# Altium schematic symbol library Schlib_Vishay.SchLib: 27 symbols
Pins are listed as number, name and electrical type; pins without a type are passive.

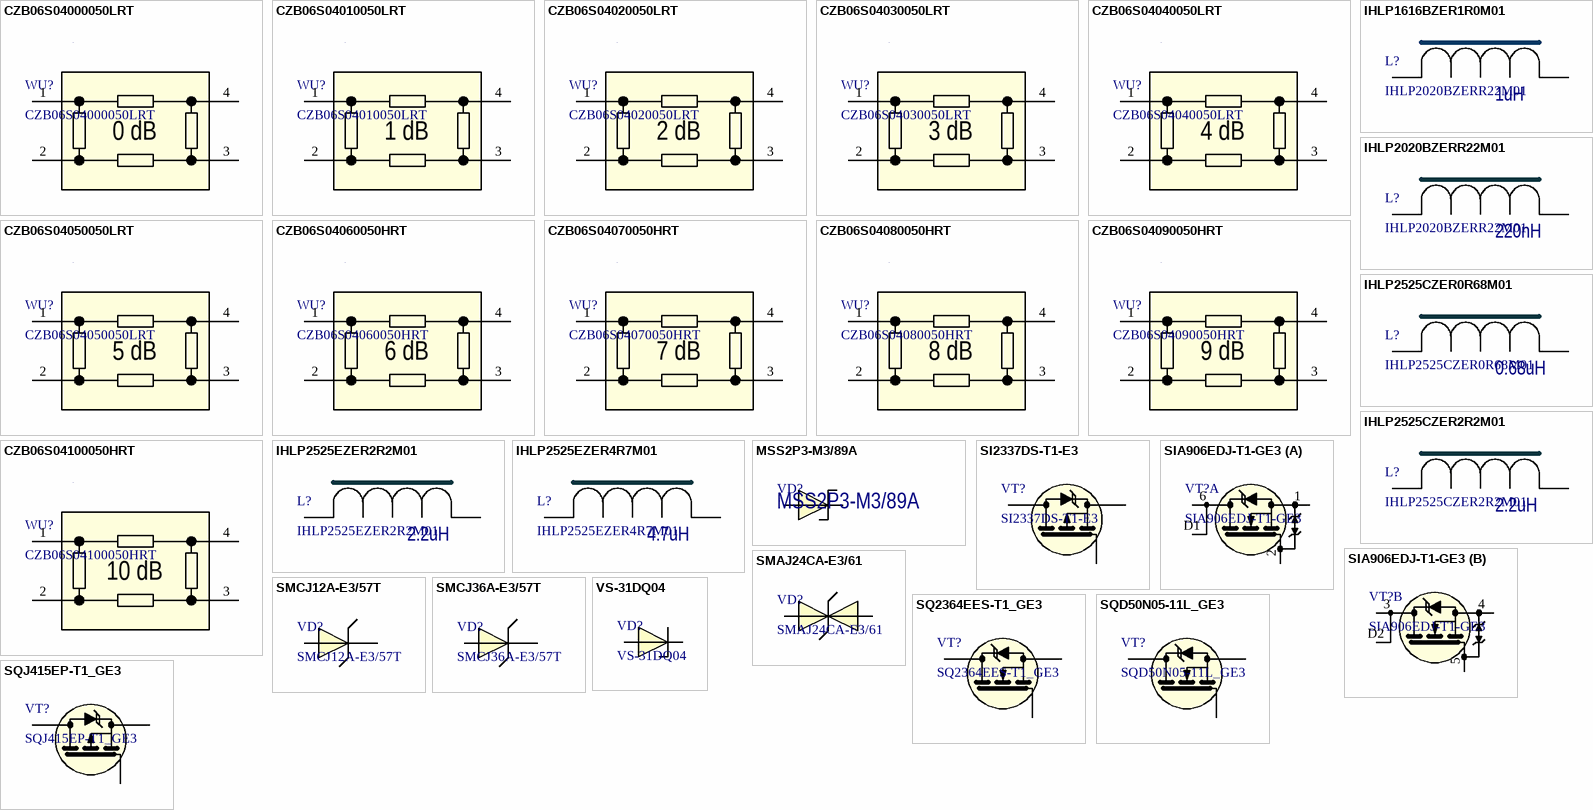
[diagram p0: symbols CZB06S04000050LRT to VS-31DQ04]

## CZB06S04000050LRT
designator WU?
Thick Film Chip Attenuator, Surface Mount, Balanced Pi Type; Manufacturer: Vishay; Part Number: CZB06S04000050LRT; Package: CZB06S
footprint CZB06S
pins: 1, 2, 3, 4
text: 0 dB

## CZB06S04010050LRT
designator WU?
Thick Film Chip Attenuator, Surface Mount, Balanced Pi Type; Manufacturer: Vishay; Part Number: CZB06S04010050LRT; Package: CZB06S
footprint CZB06S
pins: 1, 2, 3, 4
text: 1 dB

## CZB06S04020050LRT
designator WU?
Thick Film Chip Attenuator, Surface Mount, Balanced Pi Type; Manufacturer: Vishay; Part Number: CZB06S04020050LRT; Package: CZB06S
footprint CZB06S
pins: 1, 2, 3, 4
text: 2 dB

## CZB06S04030050LRT
designator WU?
Thick Film Chip Attenuator, Surface Mount, Balanced Pi Type; Manufacturer: Vishay; Part Number: CZB06S04030050LRT; Package: CZB06S
footprint CZB06S
pins: 1, 2, 3, 4
text: 3 dB

## CZB06S04040050LRT
designator WU?
Thick Film Chip Attenuator, Surface Mount, Balanced Pi Type; Manufacturer: Vishay; Part Number: CZB06S04040050LRT; Package: CZB06S
footprint CZB06S
pins: 1, 2, 3, 4
text: 4 dB

## CZB06S04050050LRT
designator WU?
Thick Film Chip Attenuator, Surface Mount, Balanced Pi Type; Manufacturer: Vishay; Part Number: CZB06S04050050LRT; Package: CZB06S
footprint CZB06S
pins: 1, 2, 3, 4
text: 5 dB

## CZB06S04060050HRT
designator WU?
Thick Film Chip Attenuator, Surface Mount, Balanced Pi Type; Manufacturer: Vishay; Part Number: CZB06S04060050HRT; Package: CZB06S
footprint CZB06S
pins: 1, 2, 3, 4
text: 6 dB

## CZB06S04070050HRT
designator WU?
Thick Film Chip Attenuator, Surface Mount, Balanced Pi Type; Manufacturer: Vishay; Part Number: CZB06S04070050HRT; Package: CZB06S
footprint CZB06S
pins: 1, 2, 3, 4
text: 7 dB

## CZB06S04080050HRT
designator WU?
Thick Film Chip Attenuator, Surface Mount, Balanced Pi Type; Manufacturer: Vishay; Part Number: CZB06S04080050HRT; Package: CZB06S
footprint CZB06S
pins: 1, 2, 3, 4
text: 8 dB

## CZB06S04090050HRT
designator WU?
Thick Film Chip Attenuator, Surface Mount, Balanced Pi Type; Manufacturer: Vishay; Part Number: CZB06S04090050HRT; Package: CZB06S
footprint CZB06S
pins: 1, 2, 3, 4
text: 9 dB

## CZB06S04100050HRT
designator WU?
Thick Film Chip Attenuator, Surface Mount, Balanced Pi Type; Manufacturer: Vishay; Part Number: CZB06S04100050HRT; Package: CZB06S
footprint CZB06S
pins: 1, 2, 3, 4
text: 10 dB

## IHLP1616BZER1R0M01
designator L?, comment IHLP2020BZERR22M01  Inductance @ 100 kHz: 1uH
Shielded SMD Power Inductors; Manufacturer: Vishay Dale; RDC: 27 mOhm; SRF Min: 64 MHz; Irms  Max: 4.5 A; Isat  Typ: 5 A; Part Number: IHLP2020BZERR22M01; Package: 4.06mm x 4.06mm
footprint IHLP1616
pins: 1, 2

## IHLP2020BZERR22M01
designator L?  Inductance @ 100 kHz: 220nH
Shielded SMD Power Inductors; Manufacturer: Vishay Dale; RDC: 5.2mOhm; SRF Min: 145 MHz; Irms  Max: 15 A; Isat  Typ: 22 A; Part Number: IHLP2020BZERR22M01; Package: 5.49mm x 5.18mm
footprint IHLP2020
pins: 1, 2

## IHLP2525CZER0R68M01
designator L?  Inductance @ 100 kHz: 0.68uH
Shielded SMD Power Inductors; Manufacturer: Vishay Dale; RDC: 5 mOhm; Irms  Max: 15.5 A; Isat  Typ: 25 A; Part Number: IHLP2525CZER0R68M01; Package: 6.47mm x 6.47mm
footprint IHLP2525_h3mm
pins: 1, 2

## IHLP2525CZER2R2M01
designator L?  Inductance @ 100 kHz: 2.2uH
Shielded SMD Power Inductors; Manufacturer: Vishay Dale; RDC: 18 mOhm; Irms  Max: 8 A; Isat  Typ: 14 A; Part Number: IHLP2525CZER2R2M01; Package: 6.47mm x 6.47mm
footprint IHLP2525_h3mm
pins: 1, 2

## IHLP2525EZER2R2M01
designator L?  Inductance @ 100 kHz: 2.2uH
Shielded SMD Power Inductors; Manufacturer: Vishay Dale; RDC: 13.6mOhm; Irms  Max: 10 A; Part Number: IHLP2525EZER2R2M01; Package: 6.47mm x 6.47mm; Isat  Typ: 10 A
footprint IHLP2525
pins: 1, 2

## IHLP2525EZER4R7M01
designator L?  Inductance @ 100 kHz: 4.7uH
Shielded SMD Power Inductors; Manufacturer: Vishay Dale; RDC: 37mOhm; Irms  Max: 5.5 A; Isat  Typ: 10 A; Part Number: IHLP2525EZER4R7M01; Package: 6.47mm x 6.47mm
footprint IHLP2525
pins: 1, 2

## MSS2P3-M3/89A
designator VD?
Diode Schottky 30V, 2A; Manufacturer: Vishay; Package: DO-219AD-2; Part Number: MSS2P3-M3/89A
footprint DO-219AD-2
pins: 1 C, 2 A

## SI2337DS-T1-E3
designator VT?
P-Channel 80-V (D-S) MOSFET 2.2A; Manufacturer: Vishay; Part Number: SI2337DS-T1-E3; Package: SOT23-3
footprint SOT23-3 (SOT23, 6-Leads, Body 2.90x2.80mm, Pitch 0.95mm, IPC Medium Density)
pins: 1 G, 2 S, 3 D

## SIA906EDJ-T1-GE3
designator VT?
Dual N-Channel 20-V (D-S) MOSFET; Manufacturer: Vishay; Part Number: SIA906EDJ-T1-GE3; Package: QFN-6_PWR
footprint PowerPAK SC70-6L(DUAL)
part A pins: 1 S1, 2 G1, 6 D1, D1
part B pins: 3 D2, 4 S2, 5 G2, D2

## SMAJ24CA-E3/61
designator VD?
24V Transient Voltage Suppressors; Manufacturer: Vishay; Part Number: SMAJ24CA-E3/61; Package: DO-214AC (SMA)
footprint SMA (Molded Diode, 2-Leads, Body 4.3x2.6mm, IPC Medium Density, based on OnSemi component dimensions and land pattern)
pins: 1 C, 2 A

## SMCJ12A-E3/57T
designator VD?
12V Transient Voltage Suppressors; Manufacturer: Vishay; Part Number: SMCJ12A-E3/57T; Package: DO-214AB-2 (SMС)
footprint DO-214AB (Molded Diode, 2-Leads, Body 6.9x5.8mm)
pins: 1 C, 2 A

## SMCJ36A-E3/57T
designator VD?
36V Transient Voltage Suppressors; Manufacturer: Vishay; Part Number: SMCJ36A-E3/57T; Package: DO-214AB-2 (SMС)
footprint DO-214AB (Molded Diode, 2-Leads, Body 6.9x5.8mm)
pins: 1 C, 2 A

## SQ2364EES-T1_GE3
designator VT?
Automotive N-Channel 60 V (D-S) 175 °C MOSFET; Manufacturer: Vishay; Part Number: SQ2364EES-T1_GE3; Package: SOT23-3
footprint SOT23-3 (SOT23, 6-Leads, Body 2.90x2.80mm, Pitch 0.95mm, IPC Medium Density)
pins: 1 G, 2 S, 3 D

## SQD50N05-11L_GE3
designator VT?
Automotive N-Channel 50A 50 V (D-S) 175 °C MOSFET; Manufacturer: Vishay; Part Number: SQD50N05-11L_GE3; Package: TO-252-3
footprint TO-252-3 (D-PAK, 3-Pads, Body 6.15x6.66mm (max), IPC Medium Density)
pins: 1 G, 2 D, 3 S

## SQJ415EP-T1_GE3
designator VT?
Automotive P-Channel 40 V (D-S) 175 °C MOSFET; Manufacturer: Vishay; Part Number: SQJ415EP-T1_GE3; Package: PowerPAK SO-8L
footprint PowerPAK SO-8L(MOSFET ONLY) (PowerPAK SO-8L single package (1-S,2-G,3-D))
pins: 1 G, 2 S, 3 D

## VS-31DQ04
designator VD?
DIODE SCHOTTKY 40V 3.3A C16; Manufacturer: Vishay; Part Number: VS-31DQ04; Package: DO-201AD
footprint DO-201AD (Package DO-201AD/DO-27)
pins: 1 C, 2 A